# Altium footprint library PG-TDSON-8_1.PcbLib: 1 footprints
Each footprint in its own frame and in the unit in brackets; x right, y up, seen from the top. Pads: shape width x height; smd on the part's side, far side on the other; paste and mask are expansions set on the pad; w line width, h text height; cw(c..) or ccw(c..) is an arc to the next point about the centre after c.
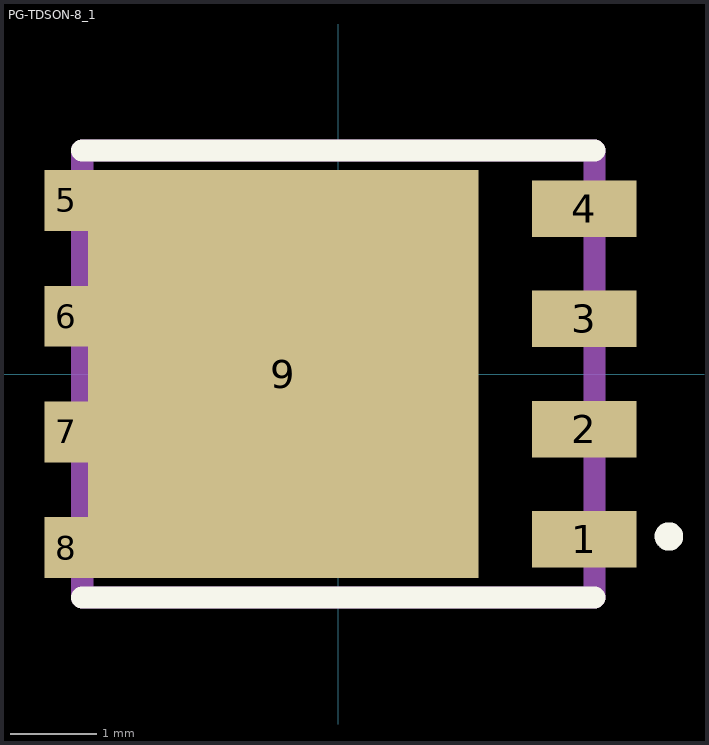
[diagram p0: the footprint, top view; thin cyan lines are the x and y axes]

## PG-TDSON-8_1 [mm]
pads (9):
  rect 1.2x0.65 smd: 1(2.834,-1.905) 2(2.834,-0.635) 3(2.834,0.635) 4(2.834,1.905)
  rect 0.5x0.7 smd: 5(-3.135,2) 6(-3.135,0.667) 7(-3.135,-0.667) 8(-3.135,-2)
  rect 4.5x4.7 smd: 9(-0.635,0)
Top Overlay:
  circle w0.254: c3.809,-1.872 r0.037
  lines w0.254: -2.95,-2.575 2.95,-2.575 ; -2.95,2.575 2.95,2.575
Mechanical 15:
  lines w0.254: -2.95,-2.575 2.95,-2.575 2.95,2.575 -2.95,2.575 -2.95,-2.575
3D body "BSC031N06NS3GATMA1.stp": height 5.8, standoff -4.65, extent -10,-3.376 10,3.376